# Altium footprint library Header-2x12-M90_2mm_SMD.PcbLib: 1 footprints
Each footprint in its own frame and in the unit in brackets; x right, y up, seen from the top. Pads: shape width x height; smd on the part's side, far side on the other; paste and mask are expansions set on the pad; w line width, h text height; cw(c..) or ccw(c..) is an arc to the next point about the centre after c.
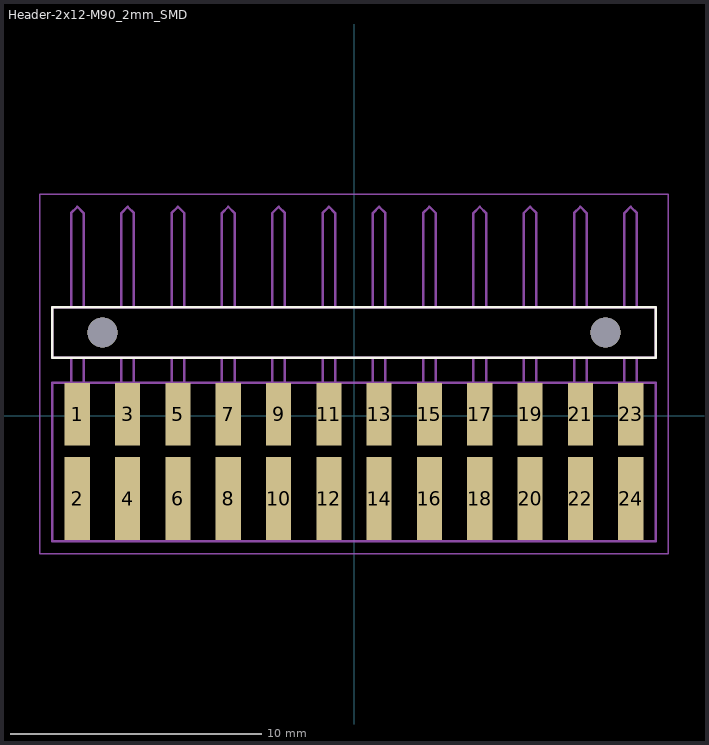
[diagram p0: the footprint, top view; thin cyan lines are the x and y axes]

## Header-2x12-M90_2mm_SMD [mm]
height 4
pads (26):
  rect 1x2.5 smd: 1(-11,0.05) 3(-9,0.05) 5(-7,0.05) 7(-5,0.05) 9(-3,0.05) 11(-1,0.05) 13(1,0.05) 15(3,0.05) 17(5,0.05) 19(7,0.05) 21(9,0.05) 23(11,0.05)
  rect 1x3.3 smd: 2(-11,-3.3) 4(-9,-3.3) 6(-7,-3.3) 8(-5,-3.3) 10(-3,-3.3) 12(-1,-3.3) 14(1,-3.3) 16(3,-3.3) 18(5,-3.3) 20(7,-3.3) 22(9,-3.3) 24(11,-3.3)
  round 1.2 hole 1.2 unplated: ""(-10,3.3) ""(10,3.3)
Top Overlay:
  lines w0.1: -12,2.3 -12,4.3 12,4.3 12,2.3 -12,2.3
Mechanical 13:
  lines w0.05: -12.5,-5.5 -12.5,8.8 12.5,8.8 12.5,-5.5 -12.5,-5.5
  lines w0.1: -12,1.299 12,1.299 12,-5 -12,-5 -12,1.3 ; -10.75,1.299 -10.75,2.3 -11.25,2.3 -11.25,1.3 -10.75,1.3 ; -9.25,1.299 -9.25,2.3 -8.75,2.3 -8.75,1.299 ; -9.25,1.3 -8.75,1.3 ; -7.25,1.299 -7.25,2.3 -6.75,2.3 -6.75,1.299 ; -7.25,1.3 -6.75,1.3 ; -5.25,1.299 -5.25,2.3 -4.75,2.3 -4.75,1.299 ; -5.25,1.3 -4.75,1.3 ; -3.25,1.299 -3.25,2.3 -2.75,2.3 -2.75,1.299 ; -3.25,1.3 -2.75,1.3 ; -1.25,1.299 -1.25,2.3 -0.75,2.3 -0.75,1.299 ; -1.25,1.3 -0.75,1.3 ; 0.75,1.299 0.75,2.3 1.25,2.3 1.25,1.299 ; 0.75,1.3 1.25,1.3 ; 2.75,1.299 2.75,2.3 3.25,2.3 3.25,1.299 ; 2.75,1.3 3.25,1.3 ; 4.75,1.299 4.75,2.3 5.25,2.3 5.25,1.299 ; 4.75,1.3 5.25,1.3 ; 6.75,1.299 6.75,2.3 7.25,2.3 7.25,1.299 ; 6.75,1.3 7.25,1.3 ; 8.75,1.299 8.75,2.3 9.25,2.3 9.25,1.299 ; 8.75,1.3 9.25,1.3 ; 10.75,1.299 10.75,2.3 11.25,2.3 11.25,1.299 ; 10.75,1.3 11.25,1.3 ; -11.25,8.05 -11.25,4.3 -10.75,4.3 -10.75,8.05 -11,8.3 ; -11.25,8.05 -11.25,8.05 ; -11.25,8.05 -11,8.3 ; -11,8.3 -11,8.3 ; -9.25,8.05 -9,8.3 ; -9.25,8.05 -9.25,8.05 ; -9.25,8.05 -9.25,4.3 -8.75,4.3 -8.75,8.05 -9,8.3 ; -9,8.3 -9,8.3 ; -7.25,8.05 -7,8.3 ; -7.25,8.05 -7.25,8.05 ; -7.25,8.05 -7.25,4.3 -6.75,4.3 -6.75,8.05 -7,8.3 ; -7,8.3 -7,8.3 ; -5.25,8.05 -5,8.3 ; -5.25,8.05 -5.25,8.05 ; -5.25,8.05 -5.25,4.3 -4.75,4.3 -4.75,8.05 -5,8.3 ; -5,8.3 -5,8.3 ; -3.25,8.05 -3,8.3 ; -3.25,8.05 -3.25,8.05 ; -3.25,8.05 -3.25,4.3 -2.75,4.3 -2.75,8.05 -3,8.3 ; -3,8.3 -3,8.3 ; -1.25,8.05 -1,8.3 ; -1.25,8.05 -1.25,8.05 ; -1.25,8.05 -1.25,4.3 -0.75,4.3 -0.75,8.05 -1,8.3 ; -1,8.3 -1,8.3 ; 0.75,8.05 1,8.3 ; 0.75,8.05 0.75,8.05 ; 0.75,8.05 0.75,4.3 1.25,4.3 1.25,8.05 1,8.3 ; 1,8.3 1,8.3 ; 2.75,8.05 3,8.3 ; 2.75,8.05 2.75,8.05 ; 2.75,8.05 2.75,4.3 3.25,4.3 3.25,8.05 3,8.3 ; 3,8.3 3,8.3 ; 4.75,8.05 5,8.3 ; 4.75,8.05 4.75,8.05 ; 4.75,8.05 4.75,4.3 5.25,4.3 5.25,8.05 5,8.3 ; 5,8.3 5,8.3 ; 6.75,8.05 7,8.3 ; 6.75,8.05 6.75,8.05 ; 6.75,8.05 6.75,4.3 7.25,4.3 7.25,8.05 7,8.3 ; 7,8.3 7,8.3 ; 8.75,8.05 9,8.3 ; 8.75,8.05 8.75,8.05 ; 8.75,8.05 8.75,4.3 9.25,4.3 9.25,8.05 9,8.3 ; 9,8.3 9,8.3 ; 10.75,8.05 11,8.3 ; 10.75,8.05 10.75,8.05 ; 10.75,8.05 10.75,4.3 11.25,4.3 11.25,8.05 11,8.3 ; 11,8.3 11,8.3 ; -12,2.3 12,2.3 12,4.3 -12,4.3 -12,2.3
3D body: height 6, standoff 0, extent -11.999,-5 12,1.299
3D body: height 6, standoff 0, extent -12,2.3 12,4.3